# Altium schematic symbol library uController_EFR.SchLib: 17 symbols (part 2 of 2)
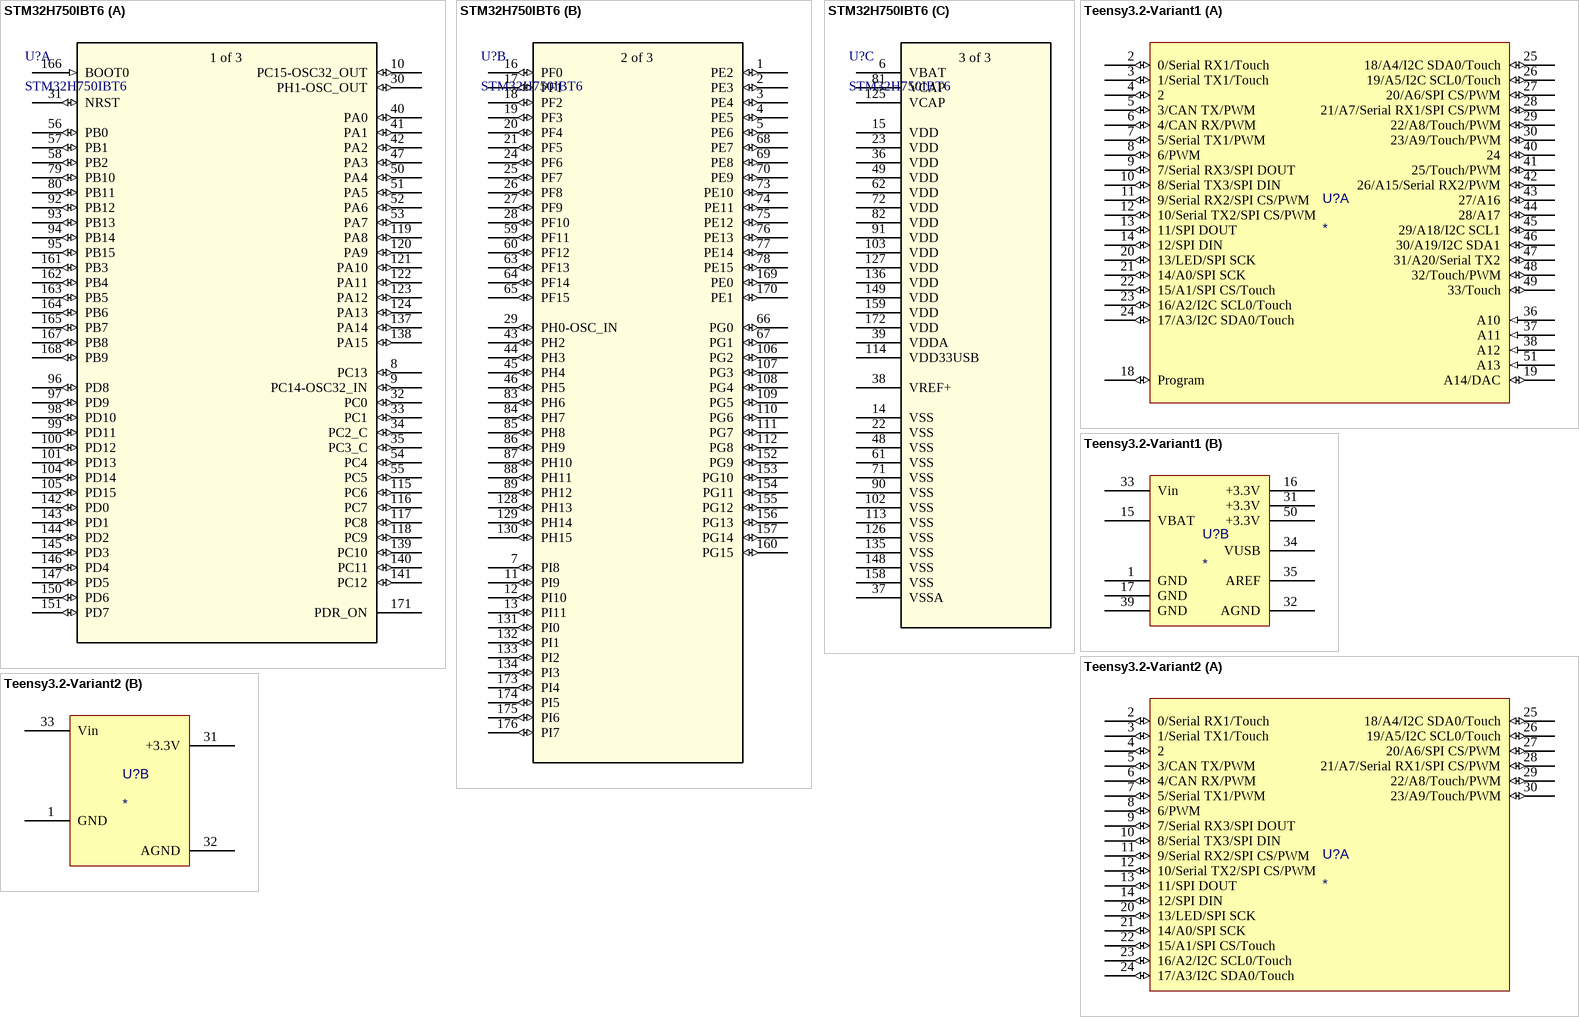
[diagram p4: symbols STM32H750IBT6 to Teensy3.2-Variant2]

## Teensy3.2-Variant2
designator U?
All Pins only two pin row header; PartNumber: Teensy3.2; Manufacturer: PJRC; ComponentLink1Description: Manufacturer; ComponentLink1URL: https://www.pjrc.com/teensy/
footprint Teensy3.2-Variant2_THT
footprint Teensy3.2-Variant2_SMD
part A pins: 2 0/Serial RX1/Touch (io), 3 1/Serial TX1/Touch (io), 4 2 (io), 5 3/CAN TX/PWM (io), 6 4/CAN RX/PWM (io), 7 5/Serial TX1/PWM (io), 8 6/PWM (io), 9 7/Serial RX3/SPI DOUT (io), 10 8/Serial TX3/SPI DIN (io), 11 9/Serial RX2/SPI CS/PWM (io), 12 10/Serial TX2/SPI CS/PWM (io), 13 11/SPI DOUT (io), 14 12/SPI DIN (io), 20 13/LED/SPI SCK (io), 21 14/A0/SPI SCK (io), 22 15/A1/SPI CS/Touch (io), 23 16/A2/I2C SCL0/Touch (io), 24 17/A3/I2C SDA0/Touch (io), 25 18/A4/I2C SDA0/Touch (io), 26 19/A5/I2C SCL0/Touch (io), 27 20/A6/SPI CS/PWM (io), 28 21/A7/Serial RX1/SPI CS/PWM (io), 29 22/A8/Touch/PWM (io), 30 23/A9/Touch/PWM (io)
part B pins: 1 GND (power), 31 +3.3V (power), 32 AGND (power), 33 Vin (power)